# EAGLE library part MAG3110 (library Lysenko_Eagle_Lib)
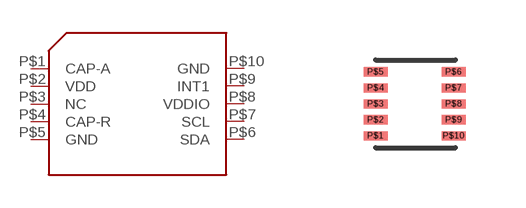
[diagram p32: symbol with the pads of MAG3110; footprint MAG3110]

Designator prefix -

## MAG3110  [MAG3110]
P$1  CAP-A
P$2  VDD
P$3  NC
P$4  CAP-R
P$5  GND
P$6  SDA
P$7  SCL
P$8  VDDIO
P$9  INT1
P$10  GND

## Footprint MAG3110 (pad centres in mm)
smd 0.6 x 0.225: P$1 0,0; P$2 0,0.4; P$3 0,0.8; P$4 0,1.2; P$5 0,1.6; P$6 1.95,1.6; P$7 1.95,1.2; P$8 1.95,0.8; P$9 1.95,0.4; P$10 1.95,0